# Altium integrated library Transistor.IntLib: 23 symbols
Pins are listed as number, name and electrical type; pins without a type are passive.

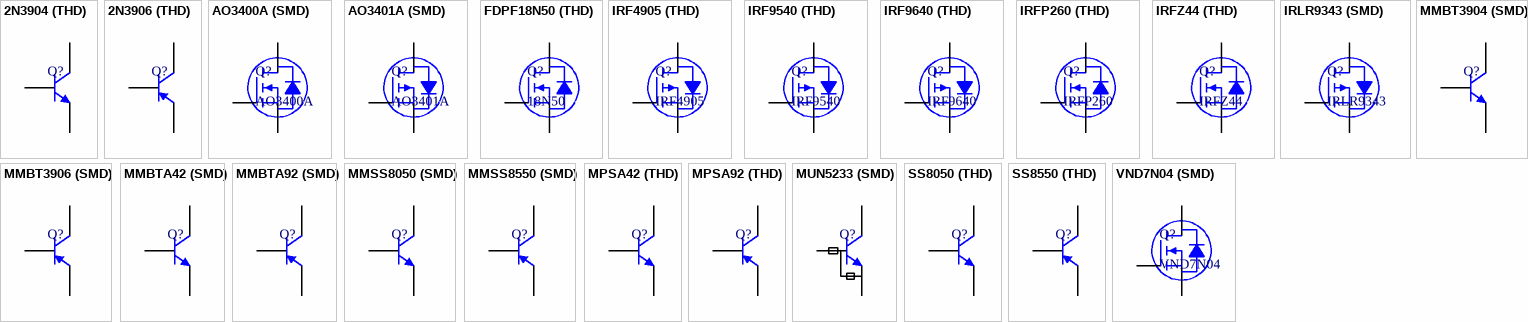
[diagram p0: symbols 2N3904 (THD) to VND7N04 (SMD)]

## 2N3904 (THD)
designator Q?, comment 2N3904  (value not drawn)
Bipolar (BJT) Transistor NPN 40V 200mA 250MHz 600mW Through Hole TO-92; PartNumber: 2N3904-AP
footprint TO-92A
footprint TO-92B
footprint TO-92W
pins: 1 E, 2 B, 3 C

## 2N3906 (THD)
designator Q?, comment 2N3906  (value not drawn)
Bipolar (BJT) Transistor PNP 40V 200mA 250MHz 600mW Through Hole TO-92; PartNumber: 2N3906-AP
footprint TO-92A
footprint TO-92B
footprint TO-92W
pins: 1 E, 2 B, 3 C

## AO3400A (SMD)
designator Q?, comment AO3400A
N-Channel 30V 5.7A (Ta) 1.4W (Ta) Surface Mount SOT-23-3L; PartNumber: AO3400A
footprint SOT-23-3 2.9X2.4MM P0.95MM (SOT23, 3-Leads, Body 2.90x2.40mm, Pitch 0.95mm, IPC Medium Density)
pins: 1 G, 2 S, 3 D

## AO3401A (SMD)
designator Q?, comment AO3401A
P-Channel 30V 4A (Ta) 1.4W (Ta) Surface Mount SOT-23-3L; PartNumber: AO3401A
footprint SOT-23-3 2.9X2.4MM P0.95MM (SOT23, 3-Leads, Body 2.90x2.40mm, Pitch 0.95mm, IPC Medium Density)
pins: 1 G, 2 S, 3 D

## FDPF18N50 (THD)
designator Q?, comment 18N50
N-Channel  500 V 18A Through Hole TO-220AB; PartNumber: FDPF18N50
footprint TO-220-3 (TO, Thru-Hole, Vertical, Heatsink Mounted; 3 In-Line Leads; Pitch 2.54 mm)
footprint TO-220-3 ALT
pins: 1 G, 2 D, 3 S

## IRF4905 (THD)
designator Q?, comment IRF4905
P-Channel 55V 74A (Tc) 200W (Tc) Through Hole TO-220AB; PartNumber: IRF4905PBF
footprint TO-220-3 (TO, Thru-Hole, Vertical, Heatsink Mounted; 3 In-Line Leads; Pitch 2.54 mm)
footprint TO-220-3 ALT
pins: 1 G, 2 D, 3 S

## IRF9540 (THD)
designator Q?, comment IRF9540
P-Channel 100V 19A (Tc) 150W (Tc) 0.2 OHM  Through Hole TO-220AB; PartNumber: IRF9540PBF
footprint TO-220-3 (TO, Thru-Hole, Vertical, Heatsink Mounted; 3 In-Line Leads; Pitch 2.54 mm)
footprint TO-220-3 ALT
pins: 1 G, 2 D, 3 S

## IRF9640 (THD)
designator Q?, comment IRF9640
P-Channel 200V 11A (Tc) 125W (Tc) 0.5 OHM  Through Hole TO-220AB; PartNumber: IRF9640PBF
footprint TO-220-3 (TO, Thru-Hole, Vertical, Heatsink Mounted; 3 In-Line Leads; Pitch 2.54 mm)
footprint TO-220-3 ALT
pins: 1 G, 2 D, 3 S

## IRFP260 (THD)
designator Q?, comment IRFP260
N-Channel 200V 46A (Tc) 280W (Tc) Through Hole TO-247; PartNumber: IRFP260NPBF
footprint TO-247_3 (TO247, TO-247, TO-3P pitch: 5.5mm 16x5mm, TO-218)
footprint TO-247_3B (TO247, TO-247, TO-3P BENDED, pitch: 5.5mm  TO-218)
pins: 1 G, 2 D, 3 S

## IRFZ44 (THD)
designator Q?, comment IRFZ44
N-Channel 55V 49A (Tc) 94W (Tc) Through Hole TO-220AB; PartNumber: IRFZ44NPBF
footprint TO-220-3 (TO, Thru-Hole, Vertical, Heatsink Mounted; 3 In-Line Leads; Pitch 2.54 mm)
footprint TO-220-3 ALT
pins: 1 G, 2 D, 3 S

## IRLR9343 (SMD)
designator Q?, comment IRLR9343
P-Channel 55V 20A (Tc) 79W (Tc) Surface Mount D-PAK (TO-252AA); PartNumber: IRLR9343TRPBF
footprint TO-252
pins: 1 G, 3 S, 4 D

## MMBT3904 (SMD)
designator Q?, comment 3904  (value not drawn)
Bipolar (BJT) Transistor NPN 40V 200mA 300MHz 300mW Surface Mount SOT-23-3; PartNumber: MMBT3904-7-F
footprint SOT-23-3 2.9X2.4MM P0.95MM (SOT23, 3-Leads, Body 2.90x2.40mm, Pitch 0.95mm, IPC Medium Density)
pins: 1 B, 2 E, 3 C

## MMBT3906 (SMD)
designator Q?, comment 3906  (value not drawn)
Bipolar (BJT) Transistor PNP 40V 200mA 250MHz 300mW Surface Mount SOT-23-3; PartNumber: MMBT3906-7-F
footprint SOT-23-3 2.9X2.4MM P0.95MM (SOT23, 3-Leads, Body 2.90x2.40mm, Pitch 0.95mm, IPC Medium Density)
pins: 1 B, 2 E, 3 C

## MMBTA42 (SMD)
designator Q?, comment 3904  (value not drawn)
Bipolar (BJT) Transistor NPN 300V 500mASurface Mount SOT-23-3; PartNumber: MMBTA42-7-F
footprint SOT-23-3 2.9X2.4MM P0.95MM (SOT23, 3-Leads, Body 2.90x2.40mm, Pitch 0.95mm, IPC Medium Density)
pins: 1 B, 2 E, 3 C

## MMBTA92 (SMD)
designator Q?, comment 3906  (value not drawn)
Bipolar (BJT) Transistor PNP 300V 500mA 300mW Surface Mount SOT-23-3; PartNumber: MMBTA92-7-F
footprint SOT-23-3 2.9X2.4MM P0.95MM (SOT23, 3-Leads, Body 2.90x2.40mm, Pitch 0.95mm, IPC Medium Density)
pins: 1 B, 2 E, 3 C

## MMSS8050 (SMD)
designator Q?, comment 8050  (value not drawn)
Bipolar (BJT) Transistor NPN 25V 1.5A 100MHz 625mW Surface Mount SOT-23; PartNumber: MMSS8050-L-TP
footprint SOT-23-3 2.9X2.4MM P0.95MM (SOT23, 3-Leads, Body 2.90x2.40mm, Pitch 0.95mm, IPC Medium Density)
pins: 1 B, 2 E, 3 C

## MMSS8550 (SMD)
designator Q?, comment 8550  (value not drawn)
Bipolar (BJT) Transistor PNP 25V 1.5A 100MHz 625mW Surface Mount SOT-23; PartNumber: MMSS8550-L-TP
footprint SOT-23-3 2.9X2.4MM P0.95MM (SOT23, 3-Leads, Body 2.90x2.40mm, Pitch 0.95mm, IPC Medium Density)
pins: 1 B, 2 E, 3 C

## MPSA42 (THD)
designator Q?, comment A42  (value not drawn)
Bipolar (BJT) Transistor NPN 300V 300mA 50MHz 625mW Through Hole TO-92; PartNumber: MPSA42-AP
footprint TO-92A
footprint TO-92B
footprint TO-92W
pins: 1 E, 2 B, 3 C

## MPSA92 (THD)
designator Q?, comment A92  (value not drawn)
Bipolar (BJT) Transistor PNP 300V 300mA 50MHz 625mW Through Hole TO-92; PartNumber: MPSA92-AP
footprint TO-92A
footprint TO-92B
footprint TO-92W
pins: 1 E, 2 B, 3 C

## MUN5233 (SMD)
designator Q?, comment MUN5233  (value not drawn)
Pre-Biased Bipolar Transistor (BJT) NPN - Pre-Biased 50 V 100 mA 202 mW Surface Mount SC-70-3 (SOT323); PartNumber: MUN5233T1G
footprint SOT-323-3 2X2.1MM P0.65MM (SOT323, 3-Leads, Body 2.00x2.10mm, Pitch 0.65mm, IPC Medium Density)
pins: 1 B, 2 E, 3 C

## SS8050 (THD)
designator Q?, comment SS8050  (value not drawn)
Bipolar (BJT) Transistor NPN 25V 1.5A 100MHz 1W Through Hole TO-92-3; PartNumber: SS8050DTA
footprint TO-92A
footprint TO-92B
footprint TO-92W
pins: 1 E, 2 B, 3 C

## SS8550 (THD)
designator Q?, comment SS8550  (value not drawn)
Bipolar (BJT) Transistor PNP 25V 1.5A 200MHz 1W Through Hole TO-92-3; PartNumber: SS8550DTA
footprint TO-92A
footprint TO-92B
footprint TO-92W
pins: 1 E, 2 B, 3 C

## VND7N04 (SMD)
designator Q?, comment VND7N04
Power Switch/Driver 1:1 N-Channel 4A DPAK; PartNumber: VND7N04TR-E
footprint TO-252
pins: 1 G, 3 S, 4 D